# EAGLE library part ATSAMA5D3 (library Atmel)
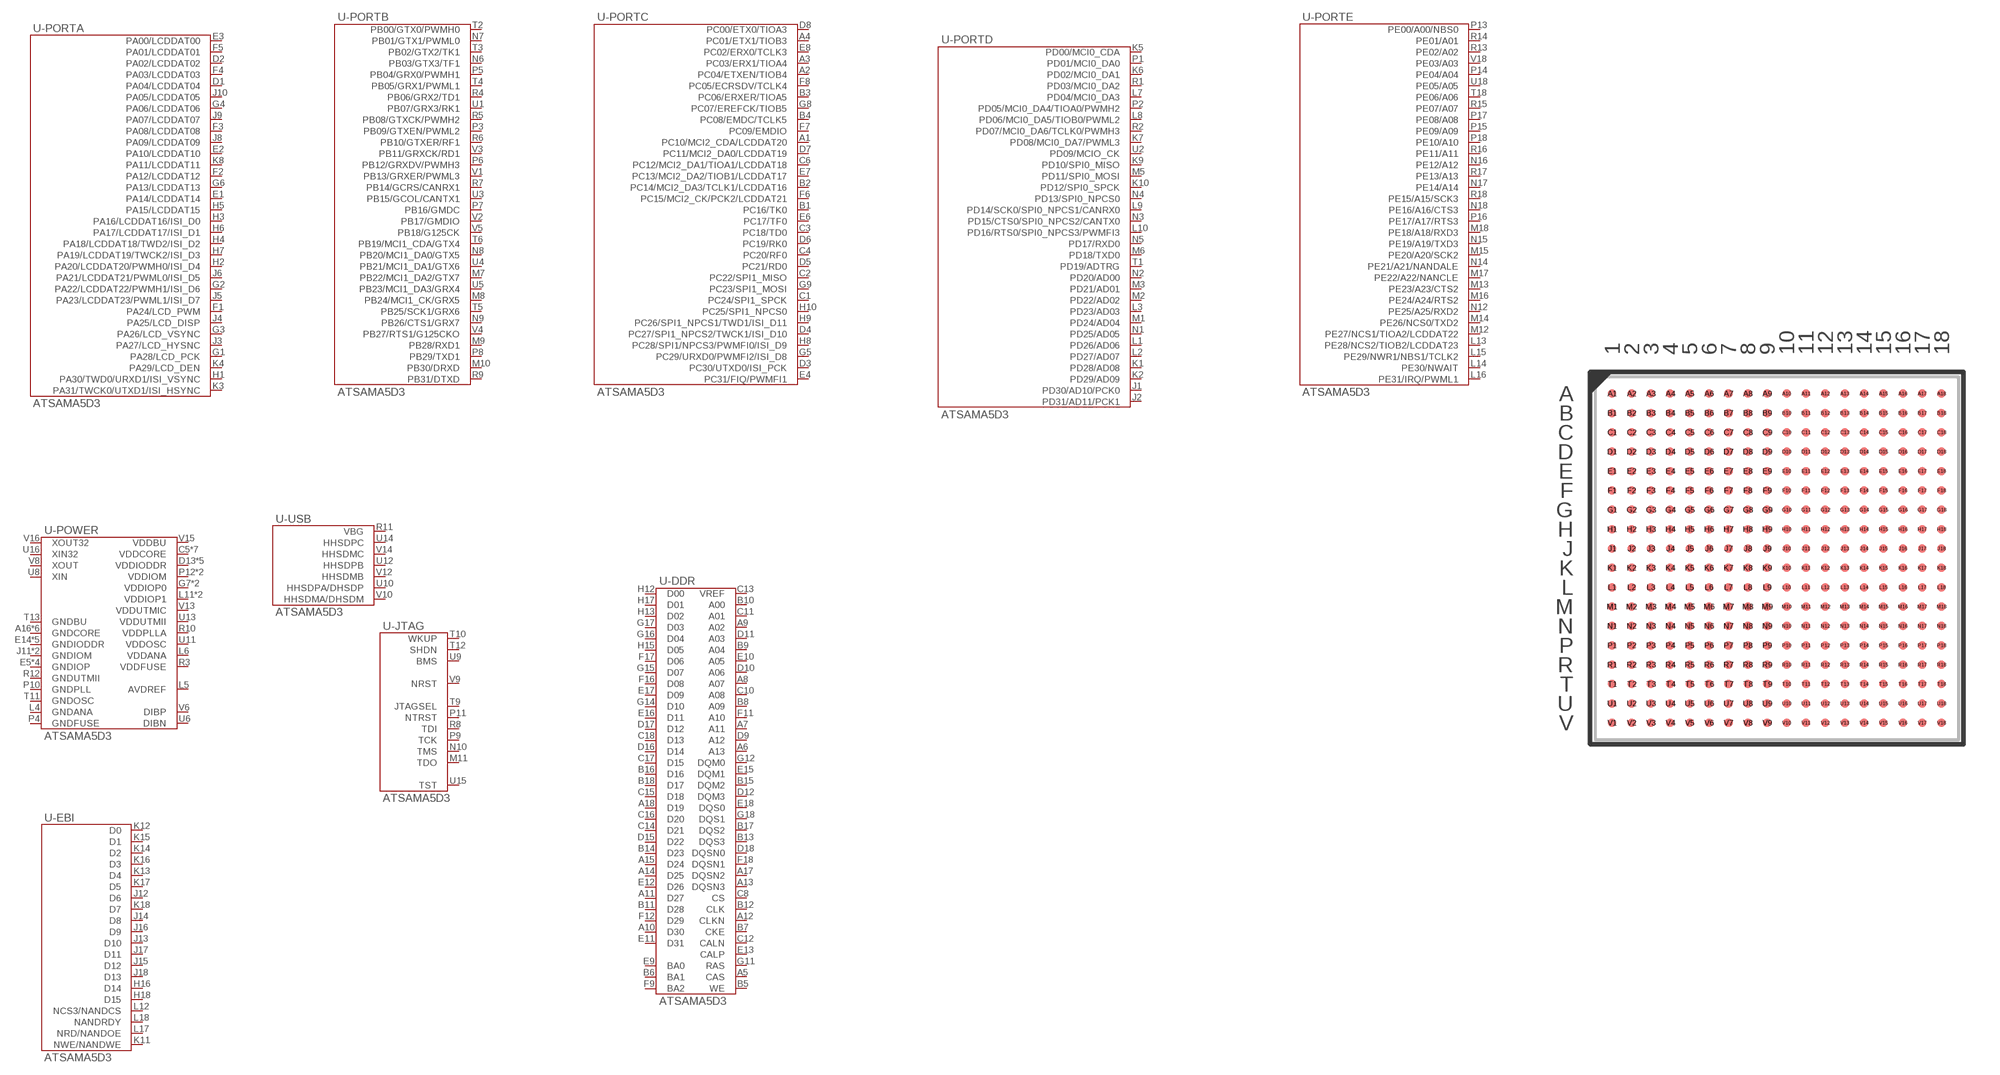
[diagram p20: symbol with the pads of LFBGA-324; footprint LFBGA-324]

Designator prefix U; gates -PORTA=ATSAMA5D3-PORTA -PORTB=ATSAMA5D3-PORTB -PORTC=ATSAMA5D3-PORTC -PORTD=ATSAMA5D3-PORTD -PORTE=ATSAMA5D5-PORTE -POWER=ATSAMA5D3-POWER -USB=ATSAMA5D3-USB -EBI=ATSAMA5D3-EBI -JTAG=ATSAMA5D3-JTAG -DDR=ATSAMA5D3-DDR

## ATSAMA5D31A-CU  [LFBGA-324]
A1  -PORTC:PC10/MCI2_CDA/LCDDAT20
A2  -PORTC:PC04/ETXEN/TIOB4
A3  -PORTC:PC03/ERX1/TIOA4
A4  -PORTC:PC01/ETX1/TIOB3
A5  -DDR:CAS
A6  -DDR:A13
A7  -DDR:A11
A8  -DDR:A07
A9  -DDR:A02
A10  -DDR:D30
A11  -DDR:D27
A12  -DDR:CLKN
A13  -DDR:DQSN3
A14  -DDR:D25
A15  -DDR:D24
A16  -POWER:GNDCORE
A17  -DDR:DQSN2
A18  -DDR:D19
B1  -PORTC:PC16/TK0
B2  -PORTC:PC14/MCI2_DA3/TCLK1/LCDDAT16
B3  -PORTC:PC06/ERXER/TIOA5
B4  -PORTC:PC08/EMDC/TCLK5
B5  -DDR:WE
B6  -DDR:BA1
B7  -DDR:CKE
B8  -DDR:A09
B9  -DDR:A04
B10  -DDR:A00
B11  -DDR:D28
B12  -DDR:CLK
B13  -DDR:DQS3
B14  -DDR:D23
B15  -DDR:DQM2
B16  -DDR:D16
B17  -DDR:DQS2
B18  -DDR:D17
C1  -PORTC:PC24/SPI1_SPCK
C2  -PORTC:PC22/SPI1_MISO
C3  -PORTC:PC18/TD0
C4  -PORTC:PC20/RF0
C5  -POWER:VDDCORE
C6  -PORTC:PC12/MCI2_DA1/TIOA1/LCDDAT18
C7  -POWER:VDDCORE
C8  -DDR:CS
C9  -POWER:GNDCORE
C10  -DDR:A08
C11  -DDR:A01
C12  -DDR:CALN
C13  -DDR:VREF
C14  -DDR:D21
C15  -DDR:D18
C16  -DDR:D20
C17  -DDR:D15
C18  -DDR:D13
D1  -PORTA:PA04/LCDDAT04
D2  -PORTA:PA02/LCDDAT02
D3  -PORTC:PC30/UTXD0/ISI_PCK
D4  -PORTC:PC27/SPI1_NPCS2/TWCK1/ISI_D10
D5  -PORTC:PC21/RD0
D6  -PORTC:PC19/RK0
D7  -PORTC:PC11/MCI2_DA0/LCDDAT19
D8  -PORTC:PC00/ETX0/TIOA3
D9  -DDR:A12
D10  -DDR:A06
D11  -DDR:A03
D12  -DDR:DQM3
D13  -POWER:VDDIODDR
D14  -POWER:VDDCORE
D15  -DDR:D22
D16  -DDR:D14
D17  -DDR:D12
D18  -DDR:DQSN0
E1  -PORTA:PA14/LCDDAT14
E2  -PORTA:PA10/LCDDAT10
E3  -PORTA:PA00/LCDDAT00
E4  -PORTC:PC31/FIQ/PWMFI1
E5  -POWER:GNDIOP
E6  -PORTC:PC17/TF0
E7  -PORTC:PC13/MCI2_DA2/TIOB1/LCDDAT17
E8  -PORTC:PC02/ERX0/TCLK3
E9  -DDR:BA0
E10  -DDR:A05
E11  -DDR:D31
E12  -DDR:D26
E13  -DDR:CALP
E14  -POWER:GNDIODDR
E15  -DDR:DQM1
E16  -DDR:D11
E17  -DDR:D09
E18  -DDR:DQS0
F1  -PORTA:PA24/LCD_PWM
F2  -PORTA:PA12/LCDDAT12
F3  -PORTA:PA08/LCDDAT08
F4  -PORTA:PA03/LCDDAT03
F5  -PORTA:PA01/LCDDAT01
F6  -PORTC:PC15/MCI2_CK/PCK2/LCDDAT21
F7  -PORTC:PC09/EMDIO
F8  -PORTC:PC05/ECRSDV/TCLK4
F9  -DDR:BA2
F10  -POWER:GNDIODDR
F11  -DDR:A10
F12  -DDR:D29
F13  -POWER:GNDIODDR
F14  -POWER:VDDIODDR
F15  -POWER:GNDIODDR
F16  -DDR:D08
F17  -DDR:D06
F18  -DDR:DQSN1
G1  -PORTA:PA28/LCD_PCK
G2  -PORTA:PA22/LCDDAT22/PWMH1/ISI_D6
G3  -PORTA:PA26/LCD_VSYNC
G4  -PORTA:PA06/LCDDAT06
G5  -PORTC:PC29/URXD0/PWMFI2/ISI_D8
G6  -PORTA:PA13/LCDDAT13
G7  -POWER:VDDIOP0
G8  -PORTC:PC07/EREFCK/TIOB5
G9  -PORTC:PC23/SPI1_MOSI
G10  -POWER:VDDIODDR
G11  -DDR:RAS
G12  -DDR:DQM0
G13  -POWER:VDDIODDR
G14  -DDR:D10
G15  -DDR:D07
G16  -DDR:D04
G17  -DDR:D03
G18  -DDR:DQS1
H1  -PORTA:PA30/TWD0/URXD1/ISI_VSYNC
H2  -PORTA:PA20/LCDDAT20/PWMH0/ISI_D4
H3  -PORTA:PA16/LCDDAT16/ISI_D0
H4  -PORTA:PA18/LCDDAT18/TWD2/ISI_D2
H5  -PORTA:PA15/LCDDAT15
H6  -PORTA:PA17/LCDDAT17/ISI_D1
H7  -PORTA:PA19/LCDDAT19/TWCK2/ISI_D3
H8  -PORTC:PC28/SPI1/NPCS3/PWMFI0/ISI_D9
H9  -PORTC:PC26/SPI1_NPCS1/TWD1/ISI_D11
H10  -PORTC:PC25/SPI1_NPCS0
H11  -POWER:VDDIODDR
H12  -DDR:D00
H13  -DDR:D02
H14  -POWER:GNDIODDR
H15  -DDR:D05
H16  -EBI:D14
H17  -DDR:D01
H18  -EBI:D15
J1  -PORTD:PD30/AD10/PCK0
J2  -PORTD:PD31/AD11/PCK1
J3  -PORTA:PA27/LCD_HYSNC
J4  -PORTA:PA25/LCD_DISP
J5  -PORTA:PA23/LCDDAT23/PWML1/ISI_D7
J6  -PORTA:PA21/LCDDAT21/PWML0/ISI_D5
J7  -POWER:GNDIOP
J8  -PORTA:PA09/LCDDAT09
J9  -PORTA:PA07/LCDDAT07
J10  -PORTA:PA05/LCDDAT05
J11  -POWER:GNDIOM
J12  -EBI:D6
J13  -EBI:D10
J14  -EBI:D8
J15  -EBI:D12
J16  -EBI:D9
J17  -EBI:D11
J18  -EBI:D13
K1  -PORTD:PD28/AD08
K2  -PORTD:PD29/AD09
K3  -PORTA:PA31/TWCK0/UTXD1/ISI_HSYNC
K4  -PORTA:PA29/LCD_DEN
K5  -PORTD:PD00/MCI0_CDA
K6  -PORTD:PD02/MCI0_DA1
K7  -PORTD:PD08/MCI0_DA7/PWML3
K8  -PORTA:PA11/LCDDAT11
K9  -PORTD:PD10/SPI0_MISO
K10  -PORTD:PD12/SPI0_SPCK
K11  -EBI:NWE/NANDWE
K12  -EBI:D0
K13  -EBI:D4
K14  -EBI:D2
K15  -EBI:D1
K16  -EBI:D3
K17  -EBI:D5
K18  -EBI:D7
L1  -PORTD:PD26/AD06
L2  -PORTD:PD27/AD07
L3  -PORTD:PD23/AD03
L4  -POWER:GNDANA
L5  -POWER:AVDREF
L6  -POWER:VDDANA
L7  -PORTD:PD04/MCI0_DA3
L8  -PORTD:PD06/MCI0_DA5/TIOB0/PWML2
L9  -PORTD:PD14/SCK0/SPI0_NPCS1/CANRX0
L10  -PORTD:PD16/RTS0/SPI0_NPCS3/PWMFI3
L11  -POWER:VDDIOP1
L12  -EBI:NCS3/NANDCS
L13  -PORTE:PE28/NCS2/TIOB2/LCDDAT23
L14  -PORTE:PE30/NWAIT
L15  -PORTE:PE29/NWR1/NBS1/TCLK2
L16  -PORTE:PE31/IRQ/PWML1
L17  -EBI:NRD/NANDOE
L18  -EBI:NANDRDY
M1  -PORTD:PD24/AD04
M2  -PORTD:PD22/AD02
M3  -PORTD:PD21/AD01
M4  -POWER:VDDIOP1
M5  -PORTD:PD11/SPI0_MOSI
M6  -PORTD:PD18/TXD0
M7  -PORTB:PB22/MCI1_DA2/GTX7
M8  -PORTB:PB24/MCI1_CK/GRX5
M9  -PORTB:PB28/RXD1
M10  -PORTB:PB30/DRXD
M11  -JTAG:TDO
M12  -PORTE:PE27/NCS1/TIOA2/LCDDAT22
M13  -PORTE:PE23/A23/CTS2
M14  -PORTE:PE26/NCS0/TXD2
M15  -PORTE:PE20/A20/SCK2
M16  -PORTE:PE24/A24/RTS2
M17  -PORTE:PE22/A22/NANCLE
M18  -PORTE:PE18/A18/RXD3
N1  -PORTD:PD25/AD05
N2  -PORTD:PD20/AD00
N3  -PORTD:PD15/CTS0/SPI0_NPCS2/CANTX0
N4  -PORTD:PD13/SPI0_NPCS0
N5  -PORTD:PD17/RXD0
N6  -PORTB:PB03/GTX3/TF1
N7  -PORTB:PB01/GTX1/PWML0
N8  -PORTB:PB20/MCI1_DA0/GTX5
N9  -PORTB:PB26/CTS1/GRX7
N10  -JTAG:TMS
N11  -POWER:GNDIOP
N12  -PORTE:PE25/A25/RXD2
N13  -POWER:GNDCORE
N14  -PORTE:PE21/A21/NANDALE
N15  -PORTE:PE19/A19/TXD3
N16  -PORTE:PE12/A12
N17  -PORTE:PE14/A14
N18  -PORTE:PE16/A16/CTS3
P1  -PORTD:PD01/MCI0_DA0
P2  -PORTD:PD05/MCI0_DA4/TIOA0/PWMH2
P3  -PORTB:PB09/GTXEN/PWML2
P4  -POWER:GNDFUSE
P5  -PORTB:PB04/GRX0/PWMH1
P6  -PORTB:PB12/GRXDV/PWMH3
P7  -PORTB:PB16/GMDC
P8  -PORTB:PB29/TXD1
P9  -JTAG:TCK
P10  -POWER:GNDPLL
P11  -JTAG:NTRST
P12  -POWER:VDDIOM
P13  -PORTE:PE00/A00/NBS0
P14  -PORTE:PE04/A04
P15  -PORTE:PE09/A09
P16  -PORTE:PE17/A17/RTS3
P17  -PORTE:PE08/A08
P18  -PORTE:PE10/A10
R1  -PORTD:PD03/MCI0_DA2
R2  -PORTD:PD07/MCI0_DA6/TCLK0/PWMH3
R3  -POWER:VDDFUSE
R4  -PORTB:PB06/GRX2/TD1
R5  -PORTB:PB08/GTXCK/PWMH2
R6  -PORTB:PB10/GTXER/RF1
R7  -PORTB:PB14/GCRS/CANRX1
R8  -JTAG:TDI
R9  -PORTB:PB31/DTXD
R10  -POWER:VDDPLLA
R11  -USB:VBG
R12  -POWER:GNDUTMII
R13  -PORTE:PE02/A02
R14  -PORTE:PE01/A01
R15  -PORTE:PE07/A07
R16  -PORTE:PE11/A11
R17  -PORTE:PE13/A13
R18  -PORTE:PE15/A15/SCK3
T1  -PORTD:PD19/ADTRG
T2  -PORTB:PB00/GTX0/PWMH0
T3  -PORTB:PB02/GTX2/TK1
T4  -PORTB:PB05/GRX1/PWML1
T5  -PORTB:PB25/SCK1/GRX6
T6  -PORTB:PB19/MCI1_CDA/GTX4
T7  -POWER:VDDCORE
T8  -POWER:GNDCORE
T9  -JTAG:JTAGSEL
T10  -JTAG:WKUP
T11  -POWER:GNDOSC
T12  -JTAG:SHDN
T13  -POWER:GNDBU
T14  -POWER:GNDCORE
T15  -POWER:VDDCORE
T16  -POWER:VDDIOM
T17  -POWER:GNDIOM
T18  -PORTE:PE06/A06
U1  -PORTB:PB07/GRX3/RK1
U2  -PORTD:PD09/MCIO_CK
U3  -PORTB:PB15/GCOL/CANTX1
U4  -PORTB:PB21/MCI1_DA1/GTX6
U5  -PORTB:PB23/MCI1_DA3/GRX4
U6  -POWER:DIBN
U7  -POWER:GNDIOP
U8  -POWER:XIN
U9  -JTAG:BMS
U10  -USB:HHSDPA/DHSDP
U11  -POWER:VDDOSC
U12  -USB:HHSDPB
U13  -POWER:VDDUTMII
U14  -USB:HHSDPC
U15  -JTAG:TST
U16  -POWER:XIN32
U17  -POWER:VDDCORE
U18  -PORTE:PE05/A05
V1  -PORTB:PB13/GRXER/PWML3
V2  -PORTB:PB17/GMDIO
V3  -PORTB:PB11/GRXCK/RD1
V4  -PORTB:PB27/RTS1/G125CKO
V5  -PORTB:PB18/G125CK
V6  -POWER:DIBP
V7  -POWER:VDDCORE
V8  -POWER:XOUT
V9  -JTAG:NRST
V10  -USB:HHSDMA/DHSDM
V11  -POWER:VDDIOP0
V12  -USB:HHSDMB
V13  -POWER:VDDUTMIC
V14  -USB:HHSDMC
V15  -POWER:VDDBU
V16  -POWER:XOUT32
V17  -POWER:GNDCORE
V18  -PORTE:PE03/A03

## Footprint LFBGA-324 (pad centres in mm)
smd 0.35 x 0.35: A1 -6.8,6.8; A2 -6,6.8; A3 -5.2,6.8; A4 -4.4,6.8; A5 -3.6,6.8; A6 -2.8,6.8; A7 -2,6.8; A8 -1.2,6.8; A9 -0.4,6.8; A10 0.4,6.8; A11 1.2,6.8; A12 2,6.8; A13 2.8,6.8; A14 3.6,6.8; A15 4.4,6.8; A16 5.2,6.8; A17 6,6.8; A18 6.8,6.8; B1 -6.8,6; B2 -6,6; B3 -5.2,6; B4 -4.4,6; B5 -3.6,6; B6 -2.8,6; B7 -2,6; B8 -1.2,6; B9 -0.4,6; B10 0.4,6; B11 1.2,6; B12 2,6; B13 2.8,6; B14 3.6,6; B15 4.4,6; B16 5.2,6; B17 6,6; B18 6.8,6; C1 -6.8,5.2; C2 -6,5.2; C3 -5.2,5.2; C4 -4.4,5.2; C5 -3.6,5.2; C6 -2.8,5.2; C7 -2,5.2; C8 -1.2,5.2; C9 -0.4,5.2; C10 0.4,5.2; C11 1.2,5.2; C12 2,5.2; C13 2.8,5.2; C14 3.6,5.2; C15 4.4,5.2; C16 5.2,5.2; C17 6,5.2; C18 6.8,5.2; D1 -6.8,4.4; D2 -6,4.4; D3 -5.2,4.4; D4 -4.4,4.4; D5 -3.6,4.4; D6 -2.8,4.4; D7 -2,4.4; D8 -1.2,4.4; D9 -0.4,4.4; D10 0.4,4.4; D11 1.2,4.4; D12 2,4.4; D13 2.8,4.4; D14 3.6,4.4; D15 4.4,4.4; D16 5.2,4.4; D17 6,4.4; D18 6.8,4.4; E1 -6.8,3.6; E2 -6,3.6; E3 -5.2,3.6; E4 -4.4,3.6; E5 -3.6,3.6; E6 -2.8,3.6; E7 -2,3.6; E8 -1.2,3.6; E9 -0.4,3.6; E10 0.4,3.6; E11 1.2,3.6; E12 2,3.6; E13 2.8,3.6; E14 3.6,3.6; E15 4.4,3.6; E16 5.2,3.6; E17 6,3.6; E18 6.8,3.6; F1 -6.8,2.8; F2 -6,2.8; F3 -5.2,2.8; F4 -4.4,2.8; F5 -3.6,2.8; F6 -2.8,2.8; F7 -2,2.8; F8 -1.2,2.8; F9 -0.4,2.8; F10 0.4,2.8; F11 1.2,2.8; F12 2,2.8; F13 2.8,2.8; F14 3.6,2.8; F15 4.4,2.8; F16 5.2,2.8; F17 6,2.8; F18 6.8,2.8; G1 -6.8,2; G2 -6,2; G3 -5.2,2; G4 -4.4,2; G5 -3.6,2; G6 -2.8,2; G7 -2,2; G8 -1.2,2; G9 -0.4,2; G10 0.4,2; G11 1.2,2; G12 2,2; G13 2.8,2; G14 3.6,2; G15 4.4,2; G16 5.2,2; G17 6,2; G18 6.8,2; H1 -6.8,1.2; H2 -6,1.2; H3 -5.2,1.2; H4 -4.4,1.2; H5 -3.6,1.2; H6 -2.8,1.2; H7 -2,1.2; H8 -1.2,1.2; H9 -0.4,1.2; H10 0.4,1.2; H11 1.2,1.2; H12 2,1.2; H13 2.8,1.2; H14 3.6,1.2; H15 4.4,1.2; H16 5.2,1.2; H17 6,1.2; H18 6.8,1.2; J1 -6.8,0.4; J2 -6,0.4; J3 -5.2,0.4; J4 -4.4,0.4; J5 -3.6,0.4; J6 -2.8,0.4; J7 -2,0.4; J8 -1.2,0.4; J9 -0.4,0.4; J10 0.4,0.4; J11 1.2,0.4; J12 2,0.4; J13 2.8,0.4; J14 3.6,0.4; J15 4.4,0.4; J16 5.2,0.4; J17 6,0.4; J18 6.8,0.4; K1 -6.8,-0.4; K2 -6,-0.4; K3 -5.2,-0.4; K4 -4.4,-0.4; K5 -3.6,-0.4; K6 -2.8,-0.4; K7 -2,-0.4; K8 -1.2,-0.4; K9 -0.4,-0.4; K10 0.4,-0.4; K11 1.2,-0.4; K12 2,-0.4; K13 2.8,-0.4; K14 3.6,-0.4; K15 4.4,-0.4; K16 5.2,-0.4; K17 6,-0.4; K18 6.8,-0.4; L1 -6.8,-1.2; L2 -6,-1.2; L3 -5.2,-1.2; L4 -4.4,-1.2; L5 -3.6,-1.2; L6 -2.8,-1.2; L7 -2,-1.2; L8 -1.2,-1.2; L9 -0.4,-1.2; L10 0.4,-1.2; L11 1.2,-1.2; L12 2,-1.2; L13 2.8,-1.2; L14 3.6,-1.2; L15 4.4,-1.2; L16 5.2,-1.2; L17 6,-1.2; L18 6.8,-1.2; M1 -6.8,-2; M2 -6,-2; M3 -5.2,-2; M4 -4.4,-2; M5 -3.6,-2; M6 -2.8,-2; M7 -2,-2; M8 -1.2,-2; M9 -0.4,-2; M10 0.4,-2; M11 1.2,-2; M12 2,-2; M13 2.8,-2; M14 3.6,-2; M15 4.4,-2; M16 5.2,-2; M17 6,-2; M18 6.8,-2; N1 -6.8,-2.8; N2 -6,-2.8; N3 -5.2,-2.8; N4 -4.4,-2.8; N5 -3.6,-2.8; N6 -2.8,-2.8; N7 -2,-2.8; N8 -1.2,-2.8; N9 -0.4,-2.8; N10 0.4,-2.8; N11 1.2,-2.8; N12 2,-2.8; N13 2.8,-2.8; N14 3.6,-2.8; N15 4.4,-2.8; N16 5.2,-2.8; N17 6,-2.8; N18 6.8,-2.8; P1 -6.8,-3.6; P2 -6,-3.6; P3 -5.2,-3.6; P4 -4.4,-3.6; P5 -3.6,-3.6; P6 -2.8,-3.6; P7 -2,-3.6; P8 -1.2,-3.6; P9 -0.4,-3.6; P10 0.4,-3.6; P11 1.2,-3.6; P12 2,-3.6; P13 2.8,-3.6; P14 3.6,-3.6; P15 4.4,-3.6; P16 5.2,-3.6; P17 6,-3.6; P18 6.8,-3.6; R1 -6.8,-4.4; R2 -6,-4.4; R3 -5.2,-4.4; R4 -4.4,-4.4; R5 -3.6,-4.4; R6 -2.8,-4.4; R7 -2,-4.4; R8 -1.2,-4.4; R9 -0.4,-4.4; R10 0.4,-4.4; R11 1.2,-4.4; R12 2,-4.4; R13 2.8,-4.4; R14 3.6,-4.4; R15 4.4,-4.4; R16 5.2,-4.4; R17 6,-4.4; R18 6.8,-4.4; T1 -6.8,-5.2; T2 -6,-5.2; T3 -5.2,-5.2; T4 -4.4,-5.2; T5 -3.6,-5.2; T6 -2.8,-5.2; T7 -2,-5.2; T8 -1.2,-5.2; T9 -0.4,-5.2; T10 0.4,-5.2; T11 1.2,-5.2; T12 2,-5.2; T13 2.8,-5.2; T14 3.6,-5.2; T15 4.4,-5.2; T16 5.2,-5.2; T17 6,-5.2; T18 6.8,-5.2; U1 -6.8,-6; U2 -6,-6; U3 -5.2,-6; U4 -4.4,-6; U5 -3.6,-6; U6 -2.8,-6; U7 -2,-6; U8 -1.2,-6; U9 -0.4,-6; U10 0.4,-6; U11 1.2,-6; U12 2,-6; U13 2.8,-6; U14 3.6,-6; U15 4.4,-6; U16 5.2,-6; U17 6,-6; U18 6.8,-6; V1 -6.8,-6.8; V2 -6,-6.8; V3 -5.2,-6.8; V4 -4.4,-6.8; V5 -3.6,-6.8; V6 -2.8,-6.8; V7 -2,-6.8; V8 -1.2,-6.8; V9 -0.4,-6.8; V10 0.4,-6.8; V11 1.2,-6.8; V12 2,-6.8; V13 2.8,-6.8; V14 3.6,-6.8; V15 4.4,-6.8; V16 5.2,-6.8; V17 6,-6.8; V18 6.8,-6.8